# EAGLE library part 2**?(PTD90) (library potentiometers)
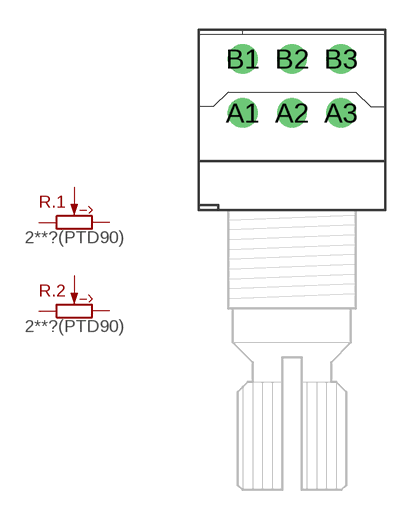
[diagram p0: symbol with the pads of PTD902; footprint PTD902]

Designator prefix R; gates .1=POTENTIOMETER .2=POTENTIOMETER

## 2A10K(PTD90) (MOUSER: 652-PTD902-2015KA103)  [PTD902]
A1  .1:CCW  pas
A2  .1:W  pas
A3  .1:CW  pas
B1  .2:CCW  pas
B2  .2:W  pas
B3  .2:CW  pas

## 2A20K(PTD90) (MOUSER: 652-PTD902-2015KA203)  [PTD902]
Pads as for PTD902

## 2B20K(CD)(PTD90) (MOUSER: 652-PTD902-2215KB203)  [PTD902]
Pads as for PTD902

## 2A50K(PTD90) (MOUSER: 652-PTD902-2015KA503)  [PTD902]
Pads as for PTD902

## 2B50K(PTD90) (MOUSER: 652-PTD902-2015KB503)  [PTD902]
Pads as for PTD902

## 2B100K(PTD90) (MOUSER: 652-PTD902-2015KB104)  [PTD902]
Pads as for PTD902

## 2B100K(CD)(PTD90) (MOUSER: 652-PTD902-2215KB104)  [PTD902]
Pads as for PTD902

## 2A100K(PTD90) (MOUSER: 652-PTD902-2015KA104)  [PTD902]
Pads as for PTD902

## Footprint PTD902 (pad centres in mm)
drill 1: A1 -2.5,5.02; A2 0,5.02; A3 2.5,5.02; B1 -2.5,7.77; B2 0,7.77; B3 2.5,7.77